# EAGLE library part AT89C51RE2 (library At89c51re2)
AT89C51RE2 * 8051 Instruction Set compatible * 4 8bit IO-Ports * 3 16bit Timers/Counters * 256bytes 8051-RAM * 8kB XRAM * 128kB ISP Flash Memory (UART Bootloader) * up to 60MHz clock Rate * X2 Mode * SPI, I2C, Dual UART * Watchdog * 2,7V - 5.5V Supply * ... Packages PLCC44, VQFP44
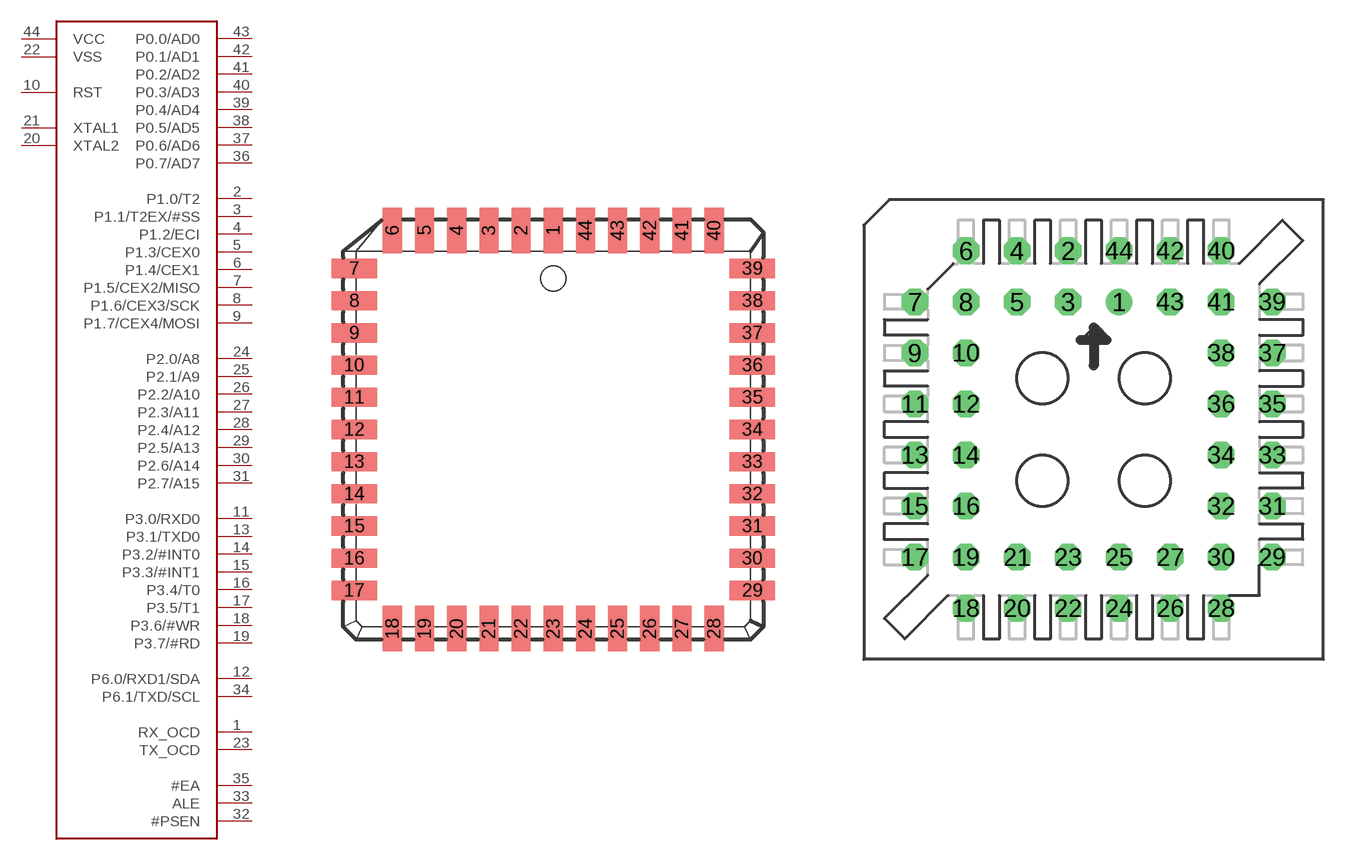
[diagram p0: symbol with the pads of PLCC44; footprints PLCC44, PLCC-S44-SOCKET]

Designator prefix -

## AT89C51RE2  [PLCC44]
1  RX_OCD
2  P1.0/T2
3  P1.1/T2EX/#SS
4  P1.2/ECI
5  P1.3/CEX0
6  P1.4/CEX1
7  P1.5/CEX2/MISO
8  P1.6/CEX3/SCK
9  P1.7/CEX4/MOSI
10  RST
11  P3.0/RXD0
12  P6.0/RXD1/SDA
13  P3.1/TXD0
14  P3.2/#INT0
15  P3.3/#INT1
16  P3.4/T0
17  P3.5/T1
18  P3.6/#WR
19  P3.7/#RD
20  XTAL2
21  XTAL1
22  VSS
23  TX_OCD
24  P2.0/A8
25  P2.1/A9
26  P2.2/A10
27  P2.3/A11
28  P2.4/A12
29  P2.5/A13
30  P2.6/A14
31  P2.7/A15
32  #PSEN
33  ALE
34  P6.1/TXD/SCL
35  #EA
36  P0.7/AD7
37  P0.6/AD6
38  P0.5/AD5
39  P0.4/AD4
40  P0.3/AD3
41  P0.2/AD2
42  P0.1/AD1
43  P0.0/AD0
44  VCC

## AT89C51RE2AT89C51RE2-SOCKET  [PLCC-S44-SOCKET]
Pads as for PLCC44

## Footprint PLCC44 (pad centres in mm)
PLASTIC LEADED CHIP CARRIER square
smd 0.76 x 1.8: 1 0,7.86; 2 -1.27,7.86; 3 -2.54,7.86; 4 -3.81,7.86; 5 -5.08,7.86; 6 -6.35,7.86; 18 -6.35,-7.86; 19 -5.08,-7.86; 20 -3.81,-7.86; 21 -2.54,-7.86; 22 -1.27,-7.86; 23 0,-7.86; 24 1.27,-7.86; 25 2.54,-7.86; 26 3.81,-7.86; 27 5.08,-7.86; 28 6.35,-7.86; 40 6.35,7.86; 41 5.08,7.86; 42 3.81,7.86; 43 2.54,7.86; 44 1.27,7.86
smd 1.8 x 0.76: 7 -7.86,6.35; 8 -7.86,5.08; 9 -7.86,3.81; 10 -7.86,2.54; 11 -7.86,1.27; 12 -7.86,0; 13 -7.86,-1.27; 14 -7.86,-2.54; 15 -7.86,-3.81; 16 -7.86,-5.08; 17 -7.86,-6.35; 29 7.86,-6.35; 30 7.86,-5.08; 31 7.86,-3.81; 32 7.86,-2.54; 33 7.86,-1.27; 34 7.86,0; 35 7.86,1.27; 36 7.86,2.54; 37 7.86,3.81; 38 7.86,5.08; 39 7.86,6.35

## Footprint PLCC-S44-SOCKET (pad centres in mm)
Plastic Leaded Chip Carrier Socket
drill 0.813 round: 1 1.27,6.35
drill 0.813 octagon: 2 -1.27,8.89; 3 -1.27,6.35; 4 -3.81,8.89; 5 -3.81,6.35; 6 -6.35,8.89; 7 -8.89,6.35; 8 -6.35,6.35; 9 -8.89,3.81; 10 -6.35,3.81; 11 -8.89,1.27; 12 -6.35,1.27; 13 -8.89,-1.27; 14 -6.35,-1.27; 15 -8.89,-3.81; 16 -6.35,-3.81; 17 -8.89,-6.35; 18 -6.35,-8.89; 19 -6.35,-6.35; 20 -3.81,-8.89; 21 -3.81,-6.35; 22 -1.27,-8.89; 23 -1.27,-6.35; 24 1.27,-8.89; 25 1.27,-6.35; 26 3.81,-8.89; 27 3.81,-6.35; 28 6.35,-8.89; 29 8.89,-6.35; 30 6.35,-6.35; 31 8.89,-3.81; 32 6.35,-3.81; 33 8.89,-1.27; 34 6.35,-1.27; 35 8.89,1.27; 36 6.35,1.27; 37 8.89,3.81; 38 6.35,3.81; 39 8.89,6.35; 40 6.35,8.89; 41 6.35,6.35; 42 3.81,8.89; 43 3.81,6.35; 44 1.27,8.89